# Altium footprint library multisupport.PcbLib: 12 footprints
Each footprint in its own frame and in the unit in brackets; x right, y up, seen from the top. Pads: shape width x height; smd on the part's side, far side on the other; paste and mask are expansions set on the pad; w line width, h text height; cw(c..) or ccw(c..) is an arc to the next point about the centre after c.
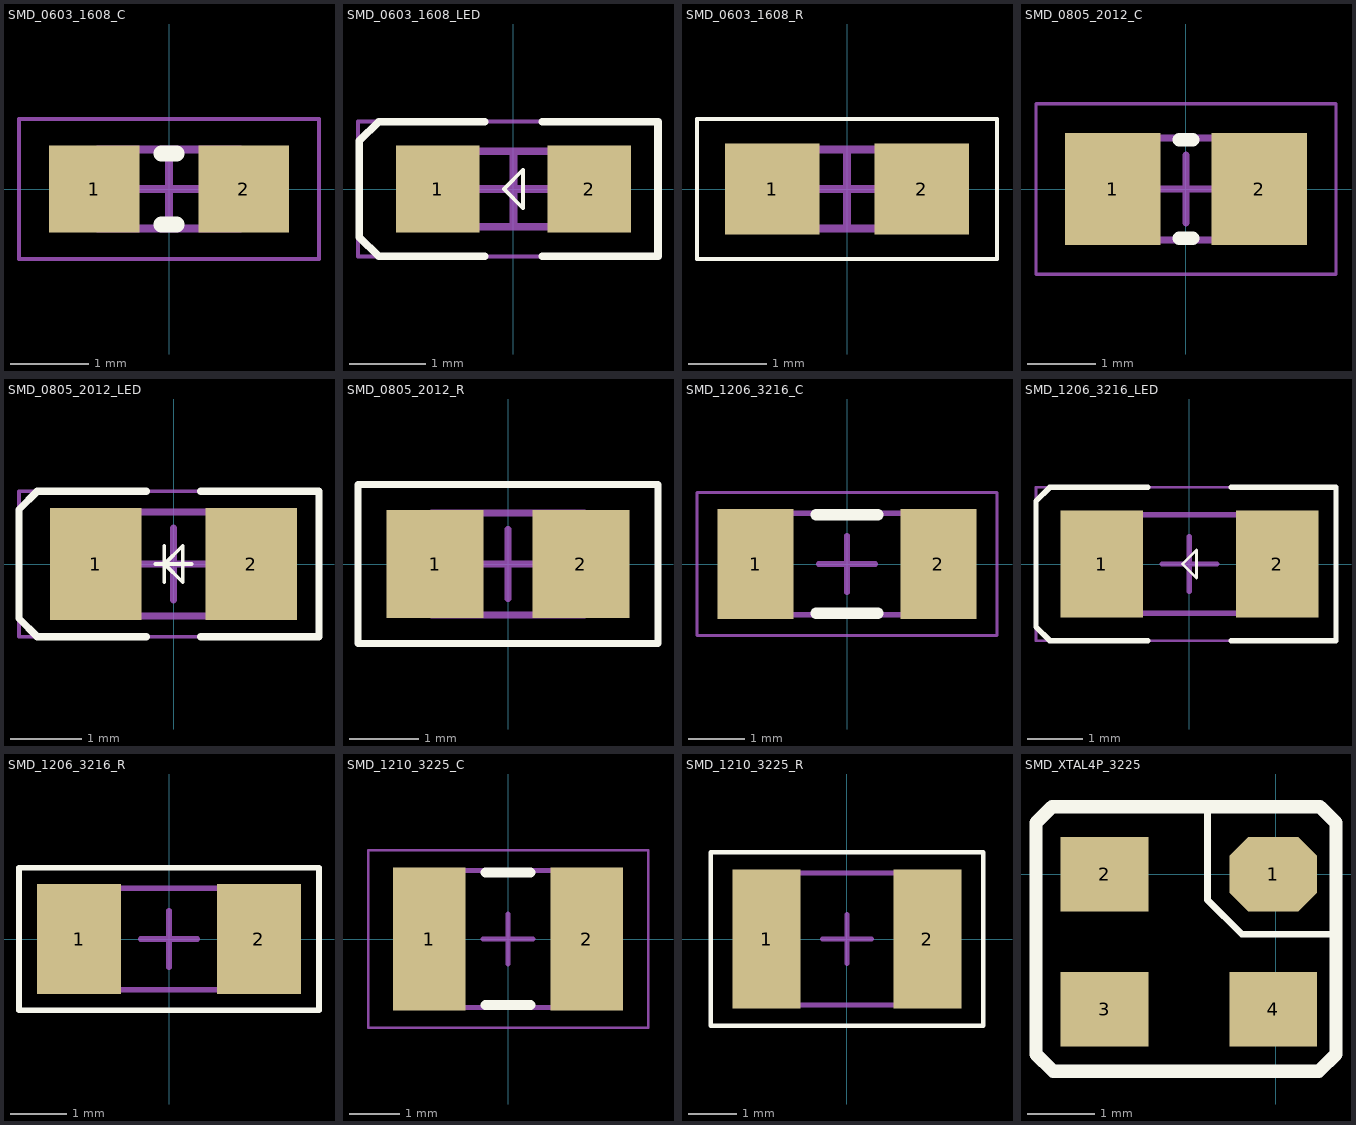
[diagram p0: the footprints below, top view; thin cyan lines are the x and y axes]

## SMD_0603_1608_C [mm] "Chip Capacitor, 2-Leads, Body 1.70x0.90mm, IPC Low Density"
height 0.5
pads (2):
  rect 1.15x1.1 smd: 1(-0.95,0) 2(0.95,0)
Top Overlay:
  lines w0.2: -0.1,-0.45 0.1,-0.45 ; -0.1,0.45 0.1,0.45
Mechanical 13:
  lines w0.1: -0.9,-0.5 -0.9,0.5 0.9,0.5 0.9,-0.5 -0.9,-0.5
Mechanical 15:
  lines w0.05: -1.905,-0.889 -1.905,0.889 1.905,0.889 1.905,-0.889 -1.905,-0.889
  lines w0.1: -0.5,0 0.5,0 ; 0,-0.5 0,0.5
3D body: height 0.5, standoff 0, extent -0.5,-0.5 0.5,0.5
3D body: height 0.5, standoff 0, extent -0.9,-0.5 -0.5,0.5
3D body: height 0.5, standoff 0, extent 0.5,-0.5 0.9,0.5

## SMD_0603_1608_LED [mm] "LED 2-Leads, Body 1.70x0.90mm, IPC Low Density"
height 0.6
pads (2):
  rect 1.1x1.15 smd: 1(-1,0) 2(1,0)
Top Overlay:
  lines w0.05: -0.127,0 0.127,0.254 0.127,-0.254 -0.127,0
  lines w0.1: -0.381,-0.889 -1.778,-0.889 -2.032,-0.635 -2.032,0.635 -1.778,0.889 -0.381,0.889 ; 0.381,-0.889 1.905,-0.889 1.905,0.889 0.381,0.889
Mechanical 13:
  lines w0.1: -0.9,-0.5 0.9,-0.5 0.9,0.5 -0.9,0.5 -0.9,-0.5
Mechanical 15:
  lines w0.05: -2.05,-0.889 1.905,-0.889 1.905,0.889 -2.05,0.889 -2.05,-0.889
  lines w0.1: -0.5,0 0.5,0 ; 0,-0.5 0,0.5
3D body: height 0.6, standoff 0, extent 0.6,-0.5 0.9,0.5
3D body: height 0.6, standoff 0, extent -0.9,-0.5 -0.6,0.5
3D body: height 0.6, standoff 0, extent -0.6,-0.5 0.6,0.5

## SMD_0603_1608_R [mm] "Chip Resistor, 2-Leads, Body 1.70x0.90mm, IPC Low Density"
height 0.89
pads (2):
  rect 1.2x1.15 smd: 1(-0.95,0) 2(0.95,0)
Top Overlay:
  lines w0.05: -1.905,-0.889 1.905,-0.889 1.905,0.889 -1.905,0.889 -1.905,-0.889
Mechanical 13:
  lines w0.1: -0.9,-0.5 -0.9,0.5 0.9,0.5 0.9,-0.5 -0.9,-0.5
Mechanical 15:
  lines w0.05: -1.905,-0.889 -1.905,0.889 1.905,0.889 1.905,-0.889 -1.905,-0.889
  lines w0.1: -0.5,0 0.5,0 ; 0,-0.5 0,0.5
3D body: height 0.89, standoff 0, extent -0.55,-0.5 0.55,0.5
3D body: height 0.89, standoff 0, extent -0.9,-0.5 -0.55,0.5
3D body: height 0.89, standoff 0, extent 0.55,-0.5 0.9,0.5

## SMD_0805_2012_C [mm] "Chip Capacitor, 2-Leads, Body 2.15x1.35mm, IPC Low Density"
height 0.9
pads (2):
  rect 1.4x1.65 smd: 1(-1.075,0) 2(1.075,0)
Top Overlay:
  lines w0.2: -0.1,-0.725 0.1,-0.725 ; -0.1,0.725 0.1,0.725
Mechanical 13:
  lines w0.1: -1.15,-0.75 -1.15,0.75 1.15,0.75 1.15,-0.75 -1.15,-0.75
Mechanical 15:
  lines w0.05: -2.2,-1.25 -2.2,1.25 2.2,1.25 2.2,-1.25 -2.2,-1.25
  lines w0.1: -0.5,0 0.5,0 ; 0,-0.5 0,0.5
3D body: height 0.9, standoff 0, extent -0.6,-0.75 0.6,0.75
3D body: height 0.9, standoff 0, extent -1.15,-0.75 -0.6,0.75
3D body: height 0.9, standoff 0, extent 0.6,-0.75 1.15,0.75

## SMD_0805_2012_LED [mm] "LED 2-Leads, Body 2.00x1.35mm, IPC Low Density"
height 0.8
pads (2):
  rect 1.28x1.57 smd: 1(-1.085,0) 2(1.085,0)
Top Overlay:
  lines w0.05: -0.254,0 -0.127,0 ; -0.127,-0.254 -0.127,0.254 ; 0.254,0 -0.127,0 ; -0.127,0 0.127,0.254 0.127,-0.254 -0.127,0
  lines w0.1: -0.381,-1.016 -1.905,-1.016 -2.159,-0.762 -2.159,0.762 -1.905,1.016 -1.524,1.016 -0.381,1.016 ; 0.381,-1.016 2.032,-1.016 2.032,1.016 0.381,1.016
Mechanical 13:
  lines w0.1: -1.1,-0.725 -1.1,0.725 1.1,0.725 1.1,-0.725 -1.1,-0.725
Mechanical 15:
  lines w0.05: -2.159,-1.016 -2.159,1.016 2.032,1.016 2.032,-1.016 -2.159,-1.016
  lines w0.1: -0.5,0 0.5,0 ; 0,-0.5 0,0.5
3D body: height 0.8, standoff 0, extent -0.6,-0.725 0.6,0.725
3D body: height 0.8, standoff 0, extent -1.1,-0.725 -0.6,0.725
3D body: height 0.8, standoff 0, extent 0.6,-0.725 1.1,0.725

## SMD_0805_2012_R [mm] "Chip Resistor, 2-Leads, Body 2.10x1.37mm, IPC Low Density"
height 0.8
pads (2):
  rect 1.4x1.55 smd: 1(-1.05,0) 2(1.05,0)
Top Overlay:
  lines w0.1: -2.159,-1.143 -2.159,1.143 -1.079,1.143 1.079,1.143 2.159,1.143 2.159,-1.143 -2.159,-1.143
Mechanical 13:
  lines w0.1: -1.1,-0.735 1.1,-0.735 1.1,0.735 -1.1,0.735 -1.1,-0.735
Mechanical 15:
  lines w0.05: -2.159,-1.143 2.159,-1.143 2.159,1.143 -2.159,1.143 -2.159,-1.143
  lines w0.1: -0.5,0 0.5,0 ; 0,-0.5 0,0.5
3D body: height 0.8, standoff 0, extent 0.6,-0.735 1.1,0.735
3D body: height 0.8, standoff 0, extent -1.1,-0.735 -0.6,0.735
3D body: height 0.8, standoff 0, extent -0.6,-0.735 0.6,0.735

## SMD_1206_3216_C [mm] "Chip Capacitor, 2-Leads, Body 3.30x1.70mm, IPC Low Density"
height 0.8
pads (2):
  rect 1.35x1.95 smd: 1(-1.625,0) 2(1.625,0)
Top Overlay:
  lines w0.2: -0.55,-0.875 0.55,-0.875 ; -0.55,0.875 0.55,0.875
Mechanical 13:
  lines w0.1: -1.7,-0.9 1.7,-0.9 1.7,0.9 -1.7,0.9 -1.7,-0.9
Mechanical 15:
  lines w0.05: -2.667,-1.27 2.667,-1.27 2.667,1.27 -2.667,1.27 -2.667,-1.27
  lines w0.1: -0.5,0 0.5,0 ; 0,-0.5 0,0.5
3D body: height 0.8, standoff 0, extent 1.1,-0.9 1.7,0.9
3D body: height 0.8, standoff 0, extent -1.7,-0.9 -1.1,0.9
3D body: height 0.8, standoff 0, extent -1.1,-0.9 1.1,0.9

## SMD_1206_3216_LED [mm] "LED, 2-Leads, Body 3.30x1.70mm, IPC Low Density"
height 0.8
pads (2):
  rect 1.5x1.95 smd: 1(-1.6,0) 2(1.6,0)
Top Overlay:
  lines w0.05: -2.794,1.143 -2.54,1.397 -2.413,1.397 ; -0.127,0 0.127,-0.254 0.127,0.254 -0.127,0
  lines w0.1: -0.762,-1.397 -2.54,-1.397 -2.794,-1.143 -2.794,1.143 -2.54,1.397 -2.413,1.397 -0.762,1.397 ; 0.762,-1.397 2.667,-1.397 2.667,1.397 0.762,1.397
Mechanical 13:
  lines w0.1: -1.7,-0.9 -1.7,0.9 1.7,0.9 1.7,-0.9 -1.7,-0.9
Mechanical 15:
  lines w0.05: -2.794,-1.397 -2.794,1.397 2.667,1.397 2.667,-1.397 -2.794,-1.397
  lines w0.1: -0.5,0 0.5,0 ; 0,-0.5 0,0.5
3D body: height 0.8, standoff 0, extent -1,-0.9 1,0.9
3D body: height 0.8, standoff 0, extent -1.7,-0.9 -1,0.9
3D body: height 0.8, standoff 0, extent 1,-0.9 1.7,0.9

## SMD_1206_3216_R [mm] "Chip Resistor, 2-Leads, Body 3.30x1.70mm, IPC Low Density"
height 1.4
pads (2):
  rect 1.5x1.95 smd: 1(-1.6,0) 2(1.6,0)
Top Overlay:
  lines w0.1: -2.667,-1.27 -2.667,1.27 2.667,1.27 2.667,-1.27 -2.667,-1.27
Mechanical 13:
  lines w0.1: -1.7,-0.9 1.7,-0.9 1.7,0.9 -1.7,0.9 -1.7,-0.9
Mechanical 15:
  lines w0.05: -2.667,-1.27 2.667,-1.27 2.667,1.27 -2.667,1.27 -2.667,-1.27
  lines w0.1: -0.5,0 0.5,0 ; 0,-0.5 0,0.5
3D body: height 1.4, standoff 0, extent 1.1,-0.9 1.7,0.9
3D body: height 1.4, standoff 0, extent -1.7,-0.9 -1.1,0.9
3D body: height 1.4, standoff 0, extent -1.1,-0.9 1.1,0.9

## SMD_1210_3225_C [mm] "Chip Capacitor, 2-Leads, Body 3.30x2.64mm, IPC Low Density"
height 1.8
pads (2):
  rect 1.45x2.85 smd: 1(-1.575,0) 2(1.575,0)
Top Overlay:
  lines w0.2: -0.45,-1.325 0.45,-1.325 ; -0.45,1.325 0.45,1.325
Mechanical 13:
  lines w0.1: -1.7,-1.37 1.7,-1.37 1.7,1.37 -1.7,1.37 -1.7,-1.37
Mechanical 15:
  lines w0.05: -2.8,-1.778 2.8,-1.778 2.8,1.778 -2.8,1.778 -2.8,-1.778
  lines w0.1: -0.5,0 0.5,0 ; 0,-0.5 0,0.5
3D body: height 1.8, standoff 0, extent 1.15,-1.37 1.7,1.37
3D body: height 1.8, standoff 0, extent -1.7,-1.37 -1.15,1.37
3D body: height 1.8, standoff 0, extent -1.15,-1.37 1.15,1.37

## SMD_1210_3225_R [mm] "Chip Resistor, 2-Leads, Body 3.30x2.60mm, IPC Low Density"
height 0.56
pads (2):
  rect 1.4x2.85 smd: 1(-1.65,0) 2(1.65,0)
Top Overlay:
  lines w0.1: -2.794,-1.778 -2.794,1.778 2.794,1.778 2.794,-1.778 -2.794,-1.778
Mechanical 13:
  lines w0.1: -1.7,-1.35 1.7,-1.35 1.7,1.35 -1.7,1.35 -1.7,-1.35
Mechanical 15:
  lines w0.05: -2.794,-1.778 2.794,-1.778 2.794,1.778 -2.794,1.778 -2.794,-1.778
  lines w0.1: -0.5,0 0.5,0 ; 0,-0.5 0,0.5
3D body: height 0.56, standoff 0, extent 1.1,-1.35 1.7,1.35
3D body: height 0.56, standoff 0, extent -1.7,-1.35 -1.1,1.35
3D body: height 0.56, standoff 0, extent -1.1,-1.35 1.1,1.35

## SMD_XTAL4P_3225 [mm] "XTAL-4Pin"
pads (4):
  oct 1.3x1.1 smd: 1(-0.04,0)
  rect 1.3x1.1 smd: 2(-2.54,0) 3(-2.54,-2) 4(-0.04,-2)
Top Overlay:
  lines w0.1: -1.016,1 -1.016,-0.381 -0.508,-0.889 0.889,-0.889
  lines w0.2: -1.79,1 0.651,1 0.889,0.762 0.889,-2.667 0.635,-2.921 -3.302,-2.921 -3.556,-2.667 -3.556,0.762 -3.318,1 -0.79,1